# Altium integrated library Microchip dsPIC33E.IntLib: 190 symbols (part 14 of 15)
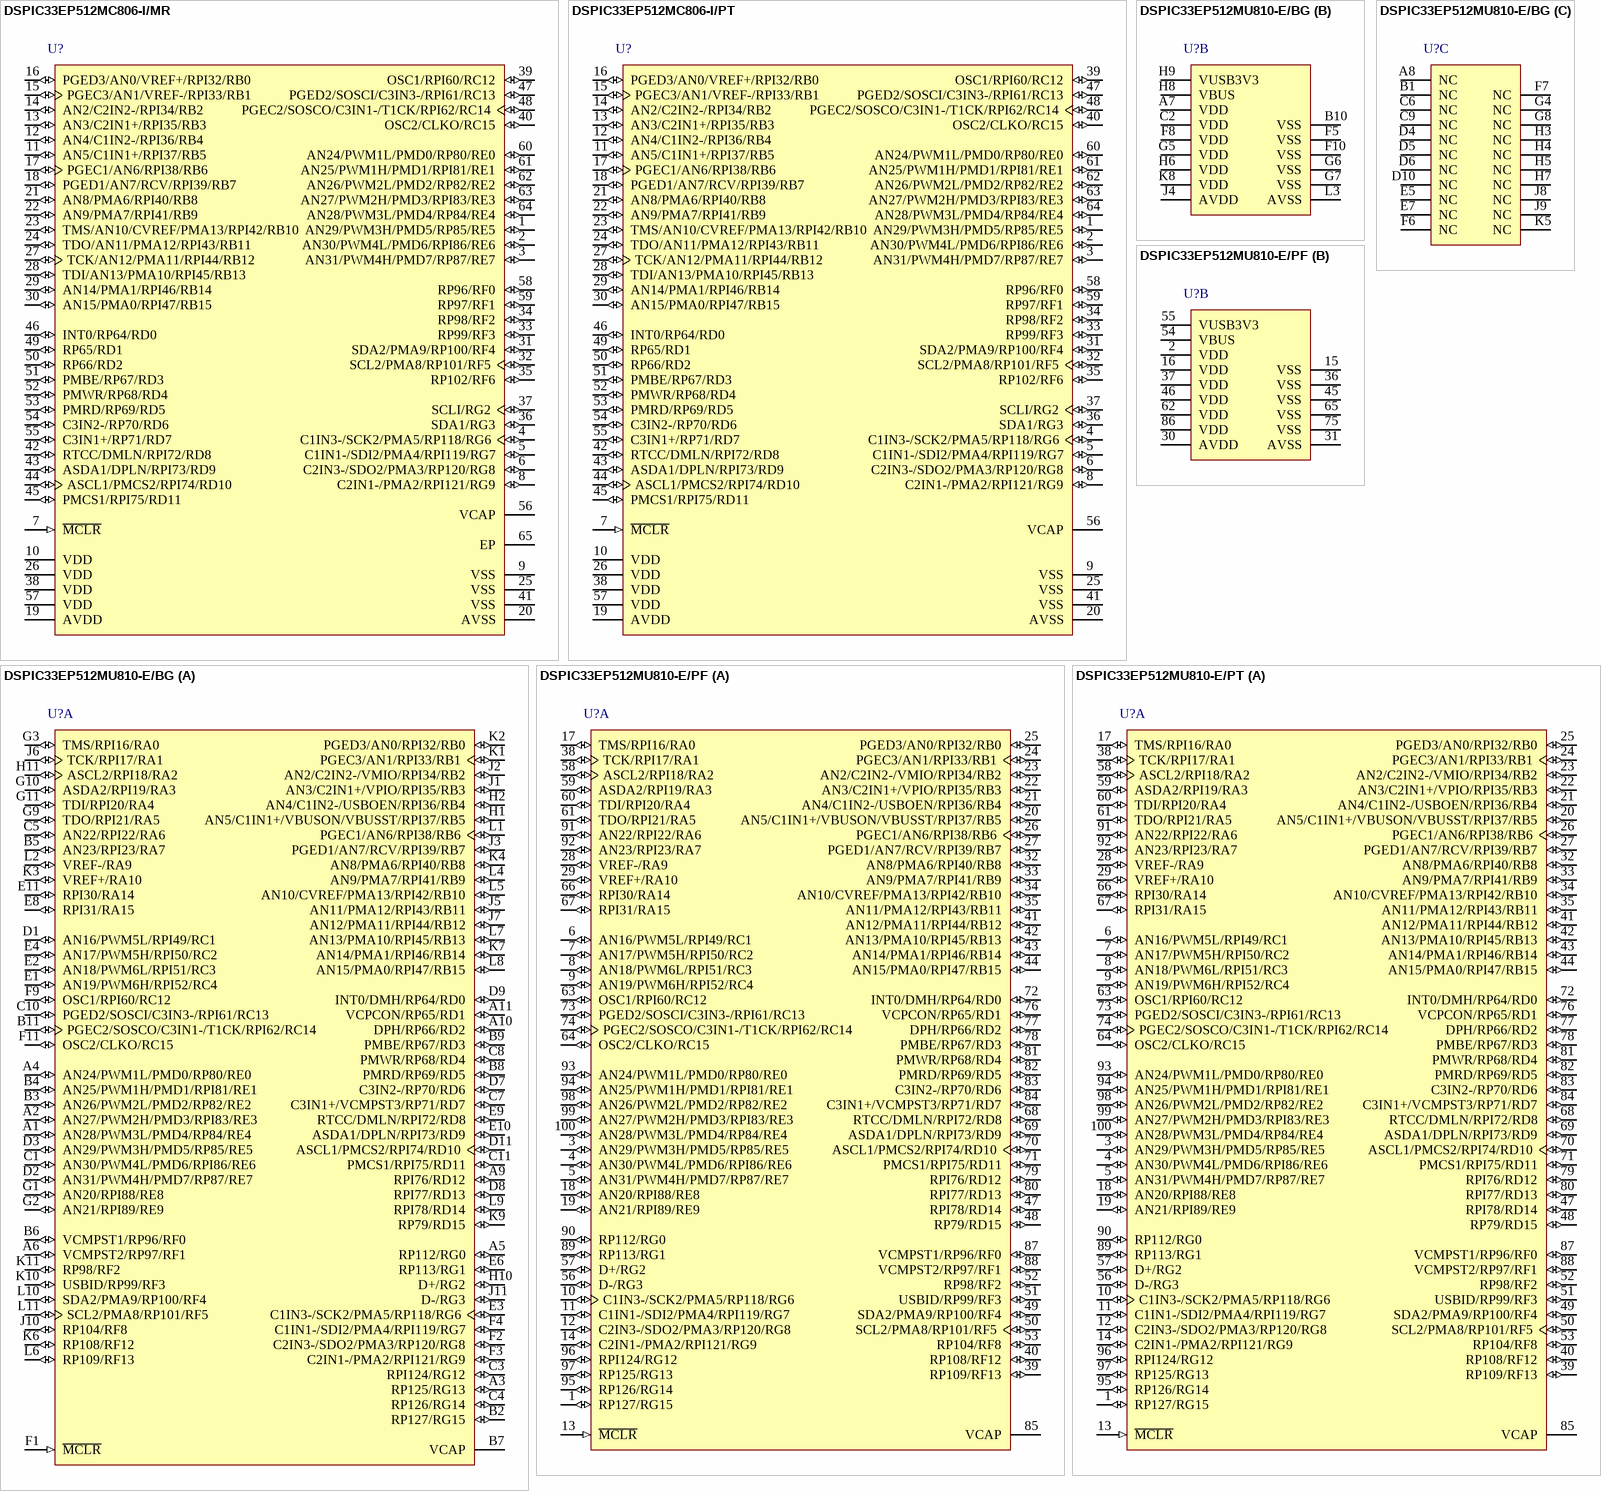
[diagram p75: symbols DSPIC33EP512MC806-I/MR to DSPIC33EP512MU810-E/PT]

## DSPIC33EP512MC806-I/MR
designator U?
16-Bit Microcontroller and Digital Signal Controller with High-Speed PWM, USB and Advanced Analog, 70 MIPS, 53 I/O, EPMP, -40 to 85 degC, 64-pin QFN (MR64), Tube; Manufacturer: Microchip; PartNumber: DSPIC33EP512MC806-I/MR; DatasheetVersion: Rev. G; PackageVersion: C04-149C; PackageReference: QFN-MR64; PackageDescription: 64-Lead Plastic Quad Flat, 9 x 9 mm Body, 0.5 mm Pitch; Supplier 1: Digi-Key; Supplier Part Number 1: DSPIC33EP512MC806-I/MR-ND; Supplier 2: Newark; Supplier Part Number 2: 72T9318; Supplier 3: Mouser; Supplier Part Number 3: 579-33EP512MC806IMR; Mounting Technology: Surface Mount; ComponentLink1Description: Manufacturer URL; ComponentLink1URL: http://www.microchip.com; ComponentLink2Description: Datasheet; ComponentLink2URL: http://ww1.microchip.com/downloads/en/DeviceDoc/70616g.pdf; ComponentLink3Description: Package Specification; ComponentLink3URL: http://www.microchip.com/stellent/groups/techpub_sg/documents/packagingspec/en012702.pdf; ComponentLink4Description: Product URL; ComponentLink4URL: http://www.microchip.com/dsPIC33EP512MC806
footprint MCHP-QFN-MR64-7275X7275TP_N (QFN, 64-Leads, Body 9x9mm, Pitch 0.5mm, Thermal Pad 7.275x7.275mm, IPC Medium Density)
footprint MCHP-QFN-MR64-7275X7275TP_L (QFN, 64-Leads, Body 9x9mm, Pitch 0.5mm, Thermal Pad 7.275x7.275mm, IPC High Density)
footprint MCHP-QFN-MR64-7275X7275TP_M (QFN, 64-Leads, Body 9x9mm, Pitch 0.5mm, Thermal Pad 7.275x7.275mm, IPC Low Density)
pins: 1 AN29/PWM3H/PMD5/RP85/RE5 (io), 2 AN30/PWM4L/PMD6/RPI86/RE6 (io), 3 AN31/PWM4H/PMD7/RP87/RE7 (io), 4 C1IN3-/SCK2/PMA5/RP118/RG6 (io), 5 C1IN1-/SDI2/PMA4/RPI119/RG7 (io), 6 C2IN3-/SDO2/PMA3/RP120/RG8 (io), 7 ~{MCLR} (in) "Master Clear (Reset) input. This pin is an active-low Reset to the device.", 8 C2IN1-/PMA2/RPI121/RG9 (io), 9 VSS (power) "Ground reference for logic and I/O pins.", 10 VDD (power) "Positive supply for peripheral logic and I/O pins.", 11 AN5/C1IN1+/RPI37/RB5 (io), 12 AN4/C1IN2-/RPI36/RB4 (io), 13 AN3/C2IN1+/RPI35/RB3 (io), 14 AN2/C2IN2-/RPI34/RB2 (io), 15 PGEC3/AN1/VREF-/RPI33/RB1 (io), 16 PGED3/AN0/VREF+/RPI32/RB0 (io), 17 PGEC1/AN6/RPI38/RB6 (io), 18 PGED1/AN7/RCV/RPI39/RB7 (io), 19 AVDD (power) "Positive supply for analog modules. This pin must be connected at all times.", 20 AVSS (power) "Ground reference for analog modules.", 21 AN8/PMA6/RPI40/RB8 (io), 22 AN9/PMA7/RPI41/RB9 (io), 23 TMS/AN10/CVREF/PMA13/RPI42/RB10 (io), 24 TDO/AN11/PMA12/RPI43/RB11 (io), 25 VSS (power) "Ground reference for logic and I/O pins.", 26 VDD (power) "Positive supply for peripheral logic and I/O pins.", 27 TCK/AN12/PMA11/RPI44/RB12 (io), 28 TDI/AN13/PMA10/RPI45/RB13 (io), 29 AN14/PMA1/RPI46/RB14 (io), 30 AN15/PMA0/RPI47/RB15 (io), 31 SDA2/PMA9/RP100/RF4 (io), 32 SCL2/PMA8/RP101/RF5 (io), 33 RP99/RF3 (io), 34 RP98/RF2 (io), 35 RP102/RF6 (io), 36 SDA1/RG3 (io), 37 SCLI/RG2 (io), 38 VDD (power) "Positive supply for peripheral logic and I/O pins.", 39 OSC1/RPI60/RC12 (io), 40 OSC2/CLKO/RC15 (io), 41 VSS (power) "Ground reference for logic and I/O pins.", 42 RTCC/DMLN/RPI72/RD8 (io), 43 ASDA1/DPLN/RPI73/RD9 (io), 44 ASCL1/PMCS2/RPI74/RD10 (io), 45 PMCS1/RPI75/RD11 (io), 46 INT0/RP64/RD0 (io), 47 PGED2/SOSCI/C3IN3-/RPI61/RC13 (io), 48 PGEC2/SOSCO/C3IN1-/T1CK/RPI62/RC14 (io), 49 RP65/RD1 (io), 50 RP66/RD2 (io), 51 PMBE/RP67/RD3 (io), 52 PMWR/RP68/RD4 (io), 53 PMRD/RP69/RD5 (io), 54 C3IN2-/RP70/RD6 (io), 55 C3IN1+/RP71/RD7 (io), 56 VCAP "CPU logic filter capacitor connection.", 57 VDD (power) "Positive supply for peripheral logic and I/O pins.", 58 RP96/RF0 (io), 59 RP97/RF1 (io), 60 AN24/PWM1L/PMD0/RP80/RE0 (io), 61 AN25/PWM1H/PMD1/RPI81/RE1 (io), 62 AN26/PWM2L/PMD2/RP82/RE2 (io), 63 AN27/PWM2H/PMD3/RPI83/RE3 (io), 64 AN28/PWM3L/PMD4/RP84/RE4 (io), 65 EP (power)

## DSPIC33EP512MC806-I/PT
designator U?
16-Bit Microcontroller and Digital Signal Controller with High-Speed PWM, USB and Advanced Analog, 70 MIPS, 53 I/O, EPMP, -40 to 85 degC, 64-pin TQFP (PT64), Tray; Manufacturer: Microchip; PartNumber: DSPIC33EP512MC806-I/PT; DatasheetVersion: Rev. G; PackageVersion: C04-085B; PackageReference: TQFP-PT64; PackageDescription: 64-Lead Plastic Thin Quad FlatPack, 10 x 10 mm Body, 0.5 mm Pitch; Supplier 1: Digi-Key; Supplier Part Number 1: DSPIC33EP512MC806-I/PT-ND; Supplier 2: Newark; Supplier Part Number 2: 72T9319; Supplier 3: Mouser; Supplier Part Number 3: 579-33EP512MC806IPT; Mounting Technology: Surface Mount; ComponentLink1Description: Manufacturer URL; ComponentLink1URL: http://www.microchip.com; ComponentLink2Description: Datasheet; ComponentLink2URL: http://ww1.microchip.com/downloads/en/DeviceDoc/70616g.pdf; ComponentLink3Description: Package Specification; ComponentLink3URL: http://www.microchip.com/stellent/groups/techpub_sg/documents/packagingspec/en012702.pdf; ComponentLink4Description: Product URL; ComponentLink4URL: http://www.microchip.com/dsPIC33EP512MC806
footprint MCHP-TQFP-PT64_N (TQFP, 64-Leads, Body 10x10mm, Pitch 0.5mm, IPC Medium Density)
footprint MCHP-TQFP-PT64_L (TQFP, 64-Leads, Body 10x10mm, Pitch 0.5mm, IPC High Density)
footprint MCHP-TQFP-PT64_M (TQFP, 64-Leads, Body 10x10mm, Pitch 0.5mm, IPC Low Density)
pins: 1 AN29/PWM3H/PMD5/RP85/RE5 (io), 2 AN30/PWM4L/PMD6/RPI86/RE6 (io), 3 AN31/PWM4H/PMD7/RP87/RE7 (io), 4 C1IN3-/SCK2/PMA5/RP118/RG6 (io), 5 C1IN1-/SDI2/PMA4/RPI119/RG7 (io), 6 C2IN3-/SDO2/PMA3/RP120/RG8 (io), 7 ~{MCLR} (in) "Master Clear (Reset) input. This pin is an active-low Reset to the device.", 8 C2IN1-/PMA2/RPI121/RG9 (io), 9 VSS (power) "Ground reference for logic and I/O pins.", 10 VDD (power) "Positive supply for peripheral logic and I/O pins.", 11 AN5/C1IN1+/RPI37/RB5 (io), 12 AN4/C1IN2-/RPI36/RB4 (io), 13 AN3/C2IN1+/RPI35/RB3 (io), 14 AN2/C2IN2-/RPI34/RB2 (io), 15 PGEC3/AN1/VREF-/RPI33/RB1 (io), 16 PGED3/AN0/VREF+/RPI32/RB0 (io), 17 PGEC1/AN6/RPI38/RB6 (io), 18 PGED1/AN7/RCV/RPI39/RB7 (io), 19 AVDD (power) "Positive supply for analog modules. This pin must be connected at all times.", 20 AVSS (power) "Ground reference for analog modules.", 21 AN8/PMA6/RPI40/RB8 (io), 22 AN9/PMA7/RPI41/RB9 (io), 23 TMS/AN10/CVREF/PMA13/RPI42/RB10 (io), 24 TDO/AN11/PMA12/RPI43/RB11 (io), 25 VSS (power) "Ground reference for logic and I/O pins.", 26 VDD (power) "Positive supply for peripheral logic and I/O pins.", 27 TCK/AN12/PMA11/RPI44/RB12 (io), 28 TDI/AN13/PMA10/RPI45/RB13 (io), 29 AN14/PMA1/RPI46/RB14 (io), 30 AN15/PMA0/RPI47/RB15 (io), 31 SDA2/PMA9/RP100/RF4 (io), 32 SCL2/PMA8/RP101/RF5 (io), 33 RP99/RF3 (io), 34 RP98/RF2 (io), 35 RP102/RF6 (io), 36 SDA1/RG3 (io), 37 SCLI/RG2 (io), 38 VDD (power) "Positive supply for peripheral logic and I/O pins.", 39 OSC1/RPI60/RC12 (io), 40 OSC2/CLKO/RC15 (io), 41 VSS (power) "Ground reference for logic and I/O pins.", 42 RTCC/DMLN/RPI72/RD8 (io), 43 ASDA1/DPLN/RPI73/RD9 (io), 44 ASCL1/PMCS2/RPI74/RD10 (io), 45 PMCS1/RPI75/RD11 (io), 46 INT0/RP64/RD0 (io), 47 PGED2/SOSCI/C3IN3-/RPI61/RC13 (io), 48 PGEC2/SOSCO/C3IN1-/T1CK/RPI62/RC14 (io), 49 RP65/RD1 (io), 50 RP66/RD2 (io), 51 PMBE/RP67/RD3 (io), 52 PMWR/RP68/RD4 (io), 53 PMRD/RP69/RD5 (io), 54 C3IN2-/RP70/RD6 (io), 55 C3IN1+/RP71/RD7 (io), 56 VCAP "CPU logic filter capacitor connection.", 57 VDD (power) "Positive supply for peripheral logic and I/O pins.", 58 RP96/RF0 (io), 59 RP97/RF1 (io), 60 AN24/PWM1L/PMD0/RP80/RE0 (io), 61 AN25/PWM1H/PMD1/RPI81/RE1 (io), 62 AN26/PWM2L/PMD2/RP82/RE2 (io), 63 AN27/PWM2H/PMD3/RPI83/RE3 (io), 64 AN28/PWM3L/PMD4/RP84/RE4 (io)

## DSPIC33EP512MU810-E/BG
designator U?
16-Bit Microcontroller and Digital Signal Controller with High-Speed PWM, USB and Advanced Analog, 70 MIPS, 83 I/O, PMP, -40 to 125 degC, 121-pin TFBGA (BG121), Tray; Manufacturer: Microchip; PartNumber: DSPIC33EP512MU810-E/BG; DatasheetVersion: Rev. G; PackageVersion: C04-148D; PackageReference: TFBGA-BG121; PackageDescription: 121-Ball Plastic Thin Profile Ball Grid Array, 10 x 10 mm Body, 0.8 mm Pitch; Supplier 1: Digi-Key; Supplier Part Number 1: DSPIC33EP512MU810-E/BG-ND; Supplier 2: Mouser; Supplier Part Number 2: 579-PIC33512MU810EBG; Mounting Technology: Surface Mount; ComponentLink1Description: Manufacturer URL; ComponentLink1URL: http://www.microchip.com; ComponentLink2Description: Datasheet; ComponentLink2URL: http://ww1.microchip.com/downloads/en/DeviceDoc/70616g.pdf; ComponentLink3Description: Package Specification; ComponentLink3URL: http://www.microchip.com/stellent/groups/techpub_sg/documents/packagingspec/en012702.pdf; ComponentLink4Description: Product URL; ComponentLink4URL: http://www.microchip.com/dsPIC33EP512MU810
footprint MCHP-TFBGA-BG121 (BGA, 121-Balls, Body 10x10mm, Pitch 0.8mm)
part A pins: A1 AN28/PWM3L/PMD4/RP84/RE4 (io), A2 AN27/PWM2H/PMD3/RPI83/RE3 (io), A3 RP125/RG13 (io), A4 AN24/PWM1L/PMD0/RP80/RE0 (io), A5 RP112/RG0 (io), A6 VCMPST2/RP97/RF1 (io), A9 RPI76/RD12 (io), A10 DPH/RP66/RD2 (io), A11 VCPCON/RP65/RD1 (io), B2 RP127/RG15 (io), B3 AN26/PWM2L/PMD2/RP82/RE2 (io), B4 AN25/PWM1H/PMD1/RPI81/RE1 (io), B5 AN23/RPI23/RA7 (io), B6 VCMPST1/RP96/RF0 (io), B7 VCAP "CPU logic filter capacitor connection.", B8 PMRD/RP69/RD5 (io), B9 PMBE/RP67/RD3 (io), B11 PGEC2/SOSCO/C3IN1-/T1CK/RPI62/RC14 (io), C1 AN30/PWM4L/PMD6/RPI86/RE6 (io), C3 RPI124/RG12 (io), C4 RP126/RG14 (io), C5 AN22/RPI22/RA6 (io), C7 C3IN1+/VCMPST3/RP71/RD7 (io), C8 PMWR/RP68/RD4 (io), C10 PGED2/SOSCI/C3IN3-/RPI61/RC13 (io), C11 PMCS1/RPI75/RD11 (io), D1 AN16/PWM5L/RPI49/RC1 (io), D2 AN31/PWM4H/PMD7/RP87/RE7 (io), D3 AN29/PWM3H/PMD5/RP85/RE5 (io), D7 C3IN2-/RP70/RD6 (io), D8 RPI77/RD13 (io), D9 INT0/DMH/RP64/RD0 (io), D11 ASCL1/PMCS2/RPI74/RD10 (io), E1 AN19/PWM6H/RPI52/RC4 (io), E2 AN18/PWM6L/RPI51/RC3 (io), E3 C1IN3-/SCK2/PMA5/RP118/RG6 (io), E4 AN17/PWM5H/RPI50/RC2 (io), E6 RP113/RG1 (io), E8 RPI31/RA15 (io), E9 RTCC/DMLN/RPI72/RD8 (io), E10 ASDA1/DPLN/RPI73/RD9 (io), E11 RPI30/RA14 (io), F1 ~{MCLR} (in) "Master Clear (Reset) input. This pin is an active-low Reset to the device.", F2 C2IN3-/SDO2/PMA3/RP120/RG8 (io), F3 C2IN1-/PMA2/RPI121/RG9 (io), F4 C1IN1-/SDI2/PMA4/RPI119/RG7 (io), F9 OSC1/RPI60/RC12 (io), F11 OSC2/CLKO/RC15 (io), G1 AN20/RPI88/RE8 (io), G2 AN21/RPI89/RE9 (io), G3 TMS/RPI16/RA0 (io), G9 TDO/RPI21/RA5 (io), G10 ASDA2/RPI19/RA3 (io), G11 TDI/RPI20/RA4 (io), H1 AN5/C1IN1+/VBUSON/VBUSST/RPI37/RB5 (io), H2 AN4/C1IN2-/USBOEN/RPI36/RB4 (io), H10 D+/RG2 (io) "D+ pin of internal USB transceiver.", H11 ASCL2/RPI18/RA2 (io), J1 AN3/C2IN1+/VPIO/RPI35/RB3 (io), J2 AN2/C2IN2-/VMIO/RPI34/RB2 (io), J3 PGED1/AN7/RCV/RPI39/RB7 (io), J5 AN11/PMA12/RPI43/RB11 (io), J6 TCK/RPI17/RA1 (io), J7 AN12/PMA11/RPI44/RB12 (io), J10 RP104/RF8 (io), J11 D-/RG3 (io) "D- pin of internal USB transceiver.", K1 PGEC3/AN1/RPI33/RB1 (io), K2 PGED3/AN0/RPI32/RB0 (io), K3 VREF+/RA10 (io), K4 AN8/PMA6/RPI40/RB8 (io), K6 RP108/RF12 (io), K7 AN14/PMA1/RPI46/RB14 (io), K9 RP79/RD15 (io), K10 USBID/RP99/RF3 (io), K11 RP98/RF2 (io), L1 PGEC1/AN6/RPI38/RB6 (io), L2 VREF-/RA9 (io), L4 AN9/PMA7/RPI41/RB9 (io), L5 AN10/CVREF/PMA13/RPI42/RB10 (io), L6 RP109/RF13 (io), L7 AN13/PMA10/RPI45/RB13 (io), L8 AN15/PMA0/RPI47/RB15 (io), L9 RPI78/RD14 (io), L10 SDA2/PMA9/RP100/RF4 (io), L11 SCL2/PMA8/RP101/RF5 (io)
part B pins: A7 VDD (power) "Positive supply for peripheral logic and I/O pins.", B10 VSS (power) "Ground reference for logic and I/O pins.", C2 VDD (power) "Positive supply for peripheral logic and I/O pins.", F5 VSS (power) "Ground reference for logic and I/O pins.", F8 VDD (power) "Positive supply for peripheral logic and I/O pins.", F10 VSS (power) "Ground reference for logic and I/O pins.", G5 VDD (power) "Positive supply for peripheral logic and I/O pins.", G6 VSS (power) "Ground reference for logic and I/O pins.", G7 VSS (power) "Ground reference for logic and I/O pins.", H6 VDD (power) "Positive supply for peripheral logic and I/O pins.", H8 VBUS (power) "USB bus power monitor.", H9 VUSB3V3 (power) "USB internal transceiver supply. If the USB module is not being used, this pin must be connected to VDD.", J4 AVDD (power) "Positive supply for analog modules. This pin must be connected at all times.", K8 VDD (power) "Positive supply for peripheral logic and I/O pins.", L3 AVSS (power) "Ground reference for analog modules."
part C pins: A8 NC "No Connect", B1 NC "No Connect", C6 NC "No Connect", C9 NC "No Connect", D4 NC "No Connect", D5 NC "No Connect", D6 NC "No Connect", D10 NC "No Connect", E5 NC "No Connect", E7 NC "No Connect", F6 NC "No Connect", F7 NC "No Connect", G4 NC "No Connect", G8 NC "No Connect", H3 NC "No Connect", H4 NC "No Connect", H5 NC "No Connect", H7 NC "No Connect", J8 NC "No Connect", J9 NC "No Connect", K5 NC "No Connect"

## DSPIC33EP512MU810-E/PF
designator U?
16-Bit Microcontroller and Digital Signal Controller with High-Speed PWM, USB and Advanced Analog, 70 MIPS, 83 I/O, PMP, -40 to 125 degC, 100-pin TQFP (PF100), Tray; Manufacturer: Microchip; PartNumber: DSPIC33EP512MU810-E/PF; DatasheetVersion: Rev. G; PackageVersion: C04-110B; PackageReference: TQFP-PF100; PackageDescription: 100-Lead Thin Plastic Quad Flat Pack, 14 x 14 mm Body, 0.5 mm Pitch; Supplier 1: Digi-Key; Supplier Part Number 1: DSPIC33EP512MU810-E/PF-ND; Supplier 2: Newark; Supplier Part Number 2: 65R5403; Supplier 3: Mouser; Supplier Part Number 3: 579-PIC33512MU810F; Mounting Technology: Surface Mount; ComponentLink1Description: Manufacturer URL; ComponentLink1URL: http://www.microchip.com; ComponentLink2Description: Datasheet; ComponentLink2URL: http://ww1.microchip.com/downloads/en/DeviceDoc/70616g.pdf; ComponentLink3Description: Package Specification; ComponentLink3URL: http://www.microchip.com/stellent/groups/techpub_sg/documents/packagingspec/en012702.pdf; ComponentLink4Description: Product URL; ComponentLink4URL: http://www.microchip.com/dsPIC33EP512MU810
footprint MCHP-TQFP-PF100_N (QFP, 100-Leads, Body 14x14mm, Pitch 0.5mm, IPC Medium Density)
footprint MCHP-TQFP-PF100_L (QFP, 100-Leads, Body 14x14mm, Pitch 0.5mm, IPC High Density)
footprint MCHP-TQFP-PF100_M (QFP, 100-Leads, Body 14x14mm, Pitch 0.5mm, IPC Low Density)
part A pins: 1 RP127/RG15 (io), 3 AN29/PWM3H/PMD5/RP85/RE5 (io), 4 AN30/PWM4L/PMD6/RPI86/RE6 (io), 5 AN31/PWM4H/PMD7/RP87/RE7 (io), 6 AN16/PWM5L/RPI49/RC1 (io), 7 AN17/PWM5H/RPI50/RC2 (io), 8 AN18/PWM6L/RPI51/RC3 (io), 9 AN19/PWM6H/RPI52/RC4 (io), 10 C1IN3-/SCK2/PMA5/RP118/RG6 (io), 11 C1IN1-/SDI2/PMA4/RPI119/RG7 (io), 12 C2IN3-/SDO2/PMA3/RP120/RG8 (io), 13 ~{MCLR} (in) "Master Clear (Reset) input. This pin is an active-low Reset to the device.", 14 C2IN1-/PMA2/RPI121/RG9 (io), 17 TMS/RPI16/RA0 (io), 18 AN20/RPI88/RE8 (io), 19 AN21/RPI89/RE9 (io), 20 AN5/C1IN1+/VBUSON/VBUSST/RPI37/RB5 (io), 21 AN4/C1IN2-/USBOEN/RPI36/RB4 (io), 22 AN3/C2IN1+/VPIO/RPI35/RB3 (io), 23 AN2/C2IN2-/VMIO/RPI34/RB2 (io), 24 PGEC3/AN1/RPI33/RB1 (io), 25 PGED3/AN0/RPI32/RB0 (io), 26 PGEC1/AN6/RPI38/RB6 (io), 27 PGED1/AN7/RCV/RPI39/RB7 (io), 28 VREF-/RA9 (io), 29 VREF+/RA10 (io), 32 AN8/PMA6/RPI40/RB8 (io), 33 AN9/PMA7/RPI41/RB9 (io), 34 AN10/CVREF/PMA13/RPI42/RB10 (io), 35 AN11/PMA12/RPI43/RB11 (io), 38 TCK/RPI17/RA1 (io), 39 RP109/RF13 (io), 40 RP108/RF12 (io), 41 AN12/PMA11/RPI44/RB12 (io), 42 AN13/PMA10/RPI45/RB13 (io), 43 AN14/PMA1/RPI46/RB14 (io), 44 AN15/PMA0/RPI47/RB15 (io), 47 RPI78/RD14 (io), 48 RP79/RD15 (io), 49 SDA2/PMA9/RP100/RF4 (io), 50 SCL2/PMA8/RP101/RF5 (io), 51 USBID/RP99/RF3 (io), 52 RP98/RF2 (io), 53 RP104/RF8 (io), 56 D-/RG3 (io), 57 D+/RG2 (io), 58 ASCL2/RPI18/RA2 (io), 59 ASDA2/RPI19/RA3 (io), 60 TDI/RPI20/RA4 (io), 61 TDO/RPI21/RA5 (io), 63 OSC1/RPI60/RC12 (io), 64 OSC2/CLKO/RC15 (io), 66 RPI30/RA14 (io), 67 RPI31/RA15 (io), 68 RTCC/DMLN/RPI72/RD8 (io), 69 ASDA1/DPLN/RPI73/RD9 (io), 70 ASCL1/PMCS2/RPI74/RD10 (io), 71 PMCS1/RPI75/RD11 (io), 72 INT0/DMH/RP64/RD0 (io), 73 PGED2/SOSCI/C3IN3-/RPI61/RC13 (io), 74 PGEC2/SOSCO/C3IN1-/T1CK/RPI62/RC14 (io), 76 VCPCON/RP65/RD1 (io), 77 DPH/RP66/RD2 (io), 78 PMBE/RP67/RD3 (io), 79 RPI76/RD12 (io), 80 RPI77/RD13 (io), 81 PMWR/RP68/RD4 (io), 82 PMRD/RP69/RD5 (io), 83 C3IN2-/RP70/RD6 (io), 84 C3IN1+/VCMPST3/RP71/RD7 (io), 85 VCAP "CPU logic filter capacitor connection.", 87 VCMPST1/RP96/RF0 (io), 88 VCMPST2/RP97/RF1 (io), 89 RP113/RG1 (io), 90 RP112/RG0 (io), 91 AN22/RPI22/RA6 (io), 92 AN23/RPI23/RA7 (io), 93 AN24/PWM1L/PMD0/RP80/RE0 (io), 94 AN25/PWM1H/PMD1/RPI81/RE1 (io), 95 RP126/RG14 (io), 96 RPI124/RG12 (io), 97 RP125/RG13 (io), 98 AN26/PWM2L/PMD2/RP82/RE2 (io), 99 AN27/PWM2H/PMD3/RPI83/RE3 (io), 100 AN28/PWM3L/PMD4/RP84/RE4 (io)
part B pins: 2 VDD (power) "Positive supply for peripheral logic and I/O pins.", 15 VSS (power) "Ground reference for logic and I/O pins.", 16 VDD (power) "Positive supply for peripheral logic and I/O pins.", 30 AVDD (power) "Positive supply for analog modules. This pin must be connected at all times.", 31 AVSS (power) "Ground reference for analog modules.", 36 VSS (power) "Ground reference for logic and I/O pins.", 37 VDD (power) "Positive supply for peripheral logic and I/O pins.", 45 VSS (power) "Ground reference for logic and I/O pins.", 46 VDD (power) "Positive supply for peripheral logic and I/O pins.", 54 VBUS (power) "USB bus power monitor.", 55 VUSB3V3 (power) "USB internal transceiver supply. If the USB module is not being used, this pin must be connected to VDD.", 62 VDD (power) "Positive supply for peripheral logic and I/O pins.", 65 VSS (power) "Ground reference for logic and I/O pins.", 75 VSS (power) "Ground reference for logic and I/O pins.", 86 VDD (power) "Positive supply for peripheral logic and I/O pins."

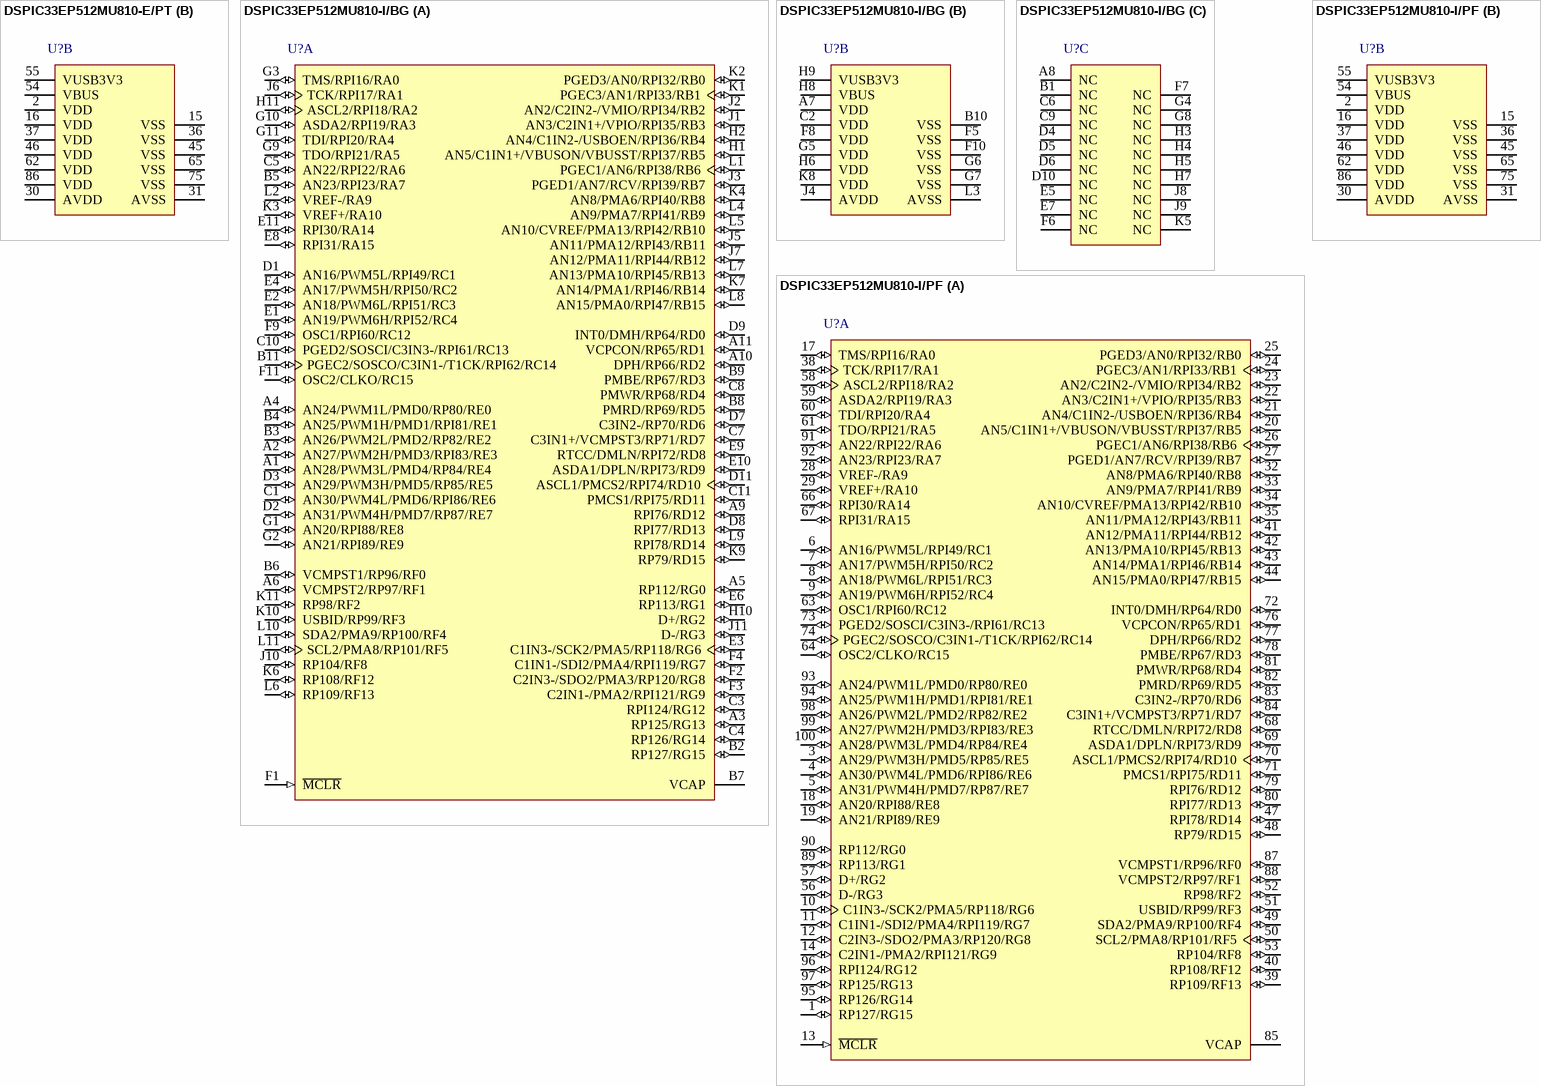
[diagram p59: symbols DSPIC33EP512MU810-E/PT to DSPIC33EP512MU810-I/PF]

## DSPIC33EP512MU810-E/PT
designator U?
16-Bit Microcontroller and Digital Signal Controller with High-Speed PWM, USB and Advanced Analog, 70 MIPS, 83 I/O, PMP, -40 to 125 degC, 100-pin TQFP (PT100), Tray; Manufacturer: Microchip; PartNumber: DSPIC33EP512MU810-E/PT; DatasheetVersion: Rev. G; PackageVersion: C04-100B; PackageReference: TQFP-PT100; PackageDescription: 100-Lead Plastic Thin Quad Flatpack, 12 x 12 mm Body, 0.4 mm Pitch; Supplier 1: Digi-Key; Supplier Part Number 1: DSPIC33EP512MU810-E/PT-ND; Supplier 2: Newark; Supplier Part Number 2: 65R5404; Supplier 3: Mouser; Supplier Part Number 3: 579-PIC33512MU810T; Mounting Technology: Surface Mount; ComponentLink1Description: Manufacturer URL; ComponentLink1URL: http://www.microchip.com; ComponentLink2Description: Datasheet; ComponentLink2URL: http://ww1.microchip.com/downloads/en/DeviceDoc/70616g.pdf; ComponentLink3Description: Package Specification; ComponentLink3URL: http://www.microchip.com/stellent/groups/techpub_sg/documents/packagingspec/en012702.pdf; ComponentLink4Description: Product URL; ComponentLink4URL: http://www.microchip.com/dsPIC33EP512MU810
footprint MCHP-TQFP-PT100_N (QFP, 100-Leads, Body 12x12mm, Pitch 0.4mm, IPC Medium Density)
footprint MCHP-TQFP-PT100_L (QFP, 100-Leads, Body 12x12mm, Pitch 0.4mm, IPC High Density)
footprint MCHP-TQFP-PT100_M (TQFP, 100-Leads, Body 12x12mm, Pitch 0.4mm, IPC Low Density)
part A pins: 1 RP127/RG15 (io), 3 AN29/PWM3H/PMD5/RP85/RE5 (io), 4 AN30/PWM4L/PMD6/RPI86/RE6 (io), 5 AN31/PWM4H/PMD7/RP87/RE7 (io), 6 AN16/PWM5L/RPI49/RC1 (io), 7 AN17/PWM5H/RPI50/RC2 (io), 8 AN18/PWM6L/RPI51/RC3 (io), 9 AN19/PWM6H/RPI52/RC4 (io), 10 C1IN3-/SCK2/PMA5/RP118/RG6 (io), 11 C1IN1-/SDI2/PMA4/RPI119/RG7 (io), 12 C2IN3-/SDO2/PMA3/RP120/RG8 (io), 13 ~{MCLR} (in) "Master Clear (Reset) input. This pin is an active-low Reset to the device.", 14 C2IN1-/PMA2/RPI121/RG9 (io), 17 TMS/RPI16/RA0 (io), 18 AN20/RPI88/RE8 (io), 19 AN21/RPI89/RE9 (io), 20 AN5/C1IN1+/VBUSON/VBUSST/RPI37/RB5 (io), 21 AN4/C1IN2-/USBOEN/RPI36/RB4 (io), 22 AN3/C2IN1+/VPIO/RPI35/RB3 (io), 23 AN2/C2IN2-/VMIO/RPI34/RB2 (io), 24 PGEC3/AN1/RPI33/RB1 (io), 25 PGED3/AN0/RPI32/RB0 (io), 26 PGEC1/AN6/RPI38/RB6 (io), 27 PGED1/AN7/RCV/RPI39/RB7 (io), 28 VREF-/RA9 (io), 29 VREF+/RA10 (io), 32 AN8/PMA6/RPI40/RB8 (io), 33 AN9/PMA7/RPI41/RB9 (io), 34 AN10/CVREF/PMA13/RPI42/RB10 (io), 35 AN11/PMA12/RPI43/RB11 (io), 38 TCK/RPI17/RA1 (io), 39 RP109/RF13 (io), 40 RP108/RF12 (io), 41 AN12/PMA11/RPI44/RB12 (io), 42 AN13/PMA10/RPI45/RB13 (io), 43 AN14/PMA1/RPI46/RB14 (io), 44 AN15/PMA0/RPI47/RB15 (io), 47 RPI78/RD14 (io), 48 RP79/RD15 (io), 49 SDA2/PMA9/RP100/RF4 (io), 50 SCL2/PMA8/RP101/RF5 (io), 51 USBID/RP99/RF3 (io), 52 RP98/RF2 (io), 53 RP104/RF8 (io), 56 D-/RG3 (io), 57 D+/RG2 (io), 58 ASCL2/RPI18/RA2 (io), 59 ASDA2/RPI19/RA3 (io), 60 TDI/RPI20/RA4 (io), 61 TDO/RPI21/RA5 (io), 63 OSC1/RPI60/RC12 (io), 64 OSC2/CLKO/RC15 (io), 66 RPI30/RA14 (io), 67 RPI31/RA15 (io), 68 RTCC/DMLN/RPI72/RD8 (io), 69 ASDA1/DPLN/RPI73/RD9 (io), 70 ASCL1/PMCS2/RPI74/RD10 (io), 71 PMCS1/RPI75/RD11 (io), 72 INT0/DMH/RP64/RD0 (io), 73 PGED2/SOSCI/C3IN3-/RPI61/RC13 (io), 74 PGEC2/SOSCO/C3IN1-/T1CK/RPI62/RC14 (io), 76 VCPCON/RP65/RD1 (io), 77 DPH/RP66/RD2 (io), 78 PMBE/RP67/RD3 (io), 79 RPI76/RD12 (io), 80 RPI77/RD13 (io), 81 PMWR/RP68/RD4 (io), 82 PMRD/RP69/RD5 (io), 83 C3IN2-/RP70/RD6 (io), 84 C3IN1+/VCMPST3/RP71/RD7 (io), 85 VCAP "CPU logic filter capacitor connection.", 87 VCMPST1/RP96/RF0 (io), 88 VCMPST2/RP97/RF1 (io), 89 RP113/RG1 (io), 90 RP112/RG0 (io), 91 AN22/RPI22/RA6 (io), 92 AN23/RPI23/RA7 (io), 93 AN24/PWM1L/PMD0/RP80/RE0 (io), 94 AN25/PWM1H/PMD1/RPI81/RE1 (io), 95 RP126/RG14 (io), 96 RPI124/RG12 (io), 97 RP125/RG13 (io), 98 AN26/PWM2L/PMD2/RP82/RE2 (io), 99 AN27/PWM2H/PMD3/RPI83/RE3 (io), 100 AN28/PWM3L/PMD4/RP84/RE4 (io)
part B pins: 2 VDD (power) "Positive supply for peripheral logic and I/O pins.", 15 VSS (power) "Ground reference for logic and I/O pins.", 16 VDD (power) "Positive supply for peripheral logic and I/O pins.", 30 AVDD (power) "Positive supply for analog modules. This pin must be connected at all times.", 31 AVSS (power) "Ground reference for analog modules.", 36 VSS (power) "Ground reference for logic and I/O pins.", 37 VDD (power) "Positive supply for peripheral logic and I/O pins.", 45 VSS (power) "Ground reference for logic and I/O pins.", 46 VDD (power) "Positive supply for peripheral logic and I/O pins.", 54 VBUS (power) "USB bus power monitor.", 55 VUSB3V3 (power) "USB internal transceiver supply. If the USB module is not being used, this pin must be connected to VDD.", 62 VDD (power) "Positive supply for peripheral logic and I/O pins.", 65 VSS (power) "Ground reference for logic and I/O pins.", 75 VSS (power) "Ground reference for logic and I/O pins.", 86 VDD (power) "Positive supply for peripheral logic and I/O pins."

## DSPIC33EP512MU810-I/BG
designator U?
16-Bit Microcontroller and Digital Signal Controller with High-Speed PWM, USB and Advanced Analog, 70 MIPS, 83 I/O, PMP, -40 to 85 degC, 121-pin TFBGA (BG121), Tray; Manufacturer: Microchip; PartNumber: DSPIC33EP512MU810-I/BG; DatasheetVersion: Rev. G; PackageVersion: C04-148D; PackageReference: TFBGA-BG121; PackageDescription: 121-Ball Plastic Thin Profile Ball Grid Array, 10 x 10 mm Body, 0.8 mm Pitch; Supplier 1: Digi-Key; Supplier Part Number 1: DSPIC33EP512MU810-I/BG-ND; Supplier 2: Farnell; Supplier Part Number 2: 2062988; Supplier 3: Newark; Supplier Part Number 3: 73R8366; Supplier 4: Mouser; Supplier Part Number 4: 579-PIC33512MU810IBG; Mounting Technology: Surface Mount; ComponentLink1Description: Manufacturer URL; ComponentLink1URL: http://www.microchip.com; ComponentLink2Description: Datasheet; ComponentLink2URL: http://ww1.microchip.com/downloads/en/DeviceDoc/70616g.pdf; ComponentLink3Description: Package Specification; ComponentLink3URL: http://www.microchip.com/stellent/groups/techpub_sg/documents/packagingspec/en012702.pdf; ComponentLink4Description: Product URL; ComponentLink4URL: http://www.microchip.com/dsPIC33EP512MU810
footprint MCHP-TFBGA-BG121 (BGA, 121-Balls, Body 10x10mm, Pitch 0.8mm)
part A pins: A1 AN28/PWM3L/PMD4/RP84/RE4 (io), A2 AN27/PWM2H/PMD3/RPI83/RE3 (io), A3 RP125/RG13 (io), A4 AN24/PWM1L/PMD0/RP80/RE0 (io), A5 RP112/RG0 (io), A6 VCMPST2/RP97/RF1 (io), A9 RPI76/RD12 (io), A10 DPH/RP66/RD2 (io), A11 VCPCON/RP65/RD1 (io), B2 RP127/RG15 (io), B3 AN26/PWM2L/PMD2/RP82/RE2 (io), B4 AN25/PWM1H/PMD1/RPI81/RE1 (io), B5 AN23/RPI23/RA7 (io), B6 VCMPST1/RP96/RF0 (io), B7 VCAP "CPU logic filter capacitor connection.", B8 PMRD/RP69/RD5 (io), B9 PMBE/RP67/RD3 (io), B11 PGEC2/SOSCO/C3IN1-/T1CK/RPI62/RC14 (io), C1 AN30/PWM4L/PMD6/RPI86/RE6 (io), C3 RPI124/RG12 (io), C4 RP126/RG14 (io), C5 AN22/RPI22/RA6 (io), C7 C3IN1+/VCMPST3/RP71/RD7 (io), C8 PMWR/RP68/RD4 (io), C10 PGED2/SOSCI/C3IN3-/RPI61/RC13 (io), C11 PMCS1/RPI75/RD11 (io), D1 AN16/PWM5L/RPI49/RC1 (io), D2 AN31/PWM4H/PMD7/RP87/RE7 (io), D3 AN29/PWM3H/PMD5/RP85/RE5 (io), D7 C3IN2-/RP70/RD6 (io), D8 RPI77/RD13 (io), D9 INT0/DMH/RP64/RD0 (io), D11 ASCL1/PMCS2/RPI74/RD10 (io), E1 AN19/PWM6H/RPI52/RC4 (io), E2 AN18/PWM6L/RPI51/RC3 (io), E3 C1IN3-/SCK2/PMA5/RP118/RG6 (io), E4 AN17/PWM5H/RPI50/RC2 (io), E6 RP113/RG1 (io), E8 RPI31/RA15 (io), E9 RTCC/DMLN/RPI72/RD8 (io), E10 ASDA1/DPLN/RPI73/RD9 (io), E11 RPI30/RA14 (io), F1 ~{MCLR} (in) "Master Clear (Reset) input. This pin is an active-low Reset to the device.", F2 C2IN3-/SDO2/PMA3/RP120/RG8 (io), F3 C2IN1-/PMA2/RPI121/RG9 (io), F4 C1IN1-/SDI2/PMA4/RPI119/RG7 (io), F9 OSC1/RPI60/RC12 (io), F11 OSC2/CLKO/RC15 (io), G1 AN20/RPI88/RE8 (io), G2 AN21/RPI89/RE9 (io), G3 TMS/RPI16/RA0 (io), G9 TDO/RPI21/RA5 (io), G10 ASDA2/RPI19/RA3 (io), G11 TDI/RPI20/RA4 (io), H1 AN5/C1IN1+/VBUSON/VBUSST/RPI37/RB5 (io), H2 AN4/C1IN2-/USBOEN/RPI36/RB4 (io), H10 D+/RG2 (io) "D+ pin of internal USB transceiver.", H11 ASCL2/RPI18/RA2 (io), J1 AN3/C2IN1+/VPIO/RPI35/RB3 (io), J2 AN2/C2IN2-/VMIO/RPI34/RB2 (io), J3 PGED1/AN7/RCV/RPI39/RB7 (io), J5 AN11/PMA12/RPI43/RB11 (io), J6 TCK/RPI17/RA1 (io), J7 AN12/PMA11/RPI44/RB12 (io), J10 RP104/RF8 (io), J11 D-/RG3 (io) "D- pin of internal USB transceiver.", K1 PGEC3/AN1/RPI33/RB1 (io), K2 PGED3/AN0/RPI32/RB0 (io), K3 VREF+/RA10 (io), K4 AN8/PMA6/RPI40/RB8 (io), K6 RP108/RF12 (io), K7 AN14/PMA1/RPI46/RB14 (io), K9 RP79/RD15 (io), K10 USBID/RP99/RF3 (io), K11 RP98/RF2 (io), L1 PGEC1/AN6/RPI38/RB6 (io), L2 VREF-/RA9 (io), L4 AN9/PMA7/RPI41/RB9 (io), L5 AN10/CVREF/PMA13/RPI42/RB10 (io), L6 RP109/RF13 (io), L7 AN13/PMA10/RPI45/RB13 (io), L8 AN15/PMA0/RPI47/RB15 (io), L9 RPI78/RD14 (io), L10 SDA2/PMA9/RP100/RF4 (io), L11 SCL2/PMA8/RP101/RF5 (io)
part B pins: A7 VDD (power) "Positive supply for peripheral logic and I/O pins.", B10 VSS (power) "Ground reference for logic and I/O pins.", C2 VDD (power) "Positive supply for peripheral logic and I/O pins.", F5 VSS (power) "Ground reference for logic and I/O pins.", F8 VDD (power) "Positive supply for peripheral logic and I/O pins.", F10 VSS (power) "Ground reference for logic and I/O pins.", G5 VDD (power) "Positive supply for peripheral logic and I/O pins.", G6 VSS (power) "Ground reference for logic and I/O pins.", G7 VSS (power) "Ground reference for logic and I/O pins.", H6 VDD (power) "Positive supply for peripheral logic and I/O pins.", H8 VBUS (power) "USB bus power monitor.", H9 VUSB3V3 (power) "USB internal transceiver supply. If the USB module is not being used, this pin must be connected to VDD.", J4 AVDD (power) "Positive supply for analog modules. This pin must be connected at all times.", K8 VDD (power) "Positive supply for peripheral logic and I/O pins.", L3 AVSS (power) "Ground reference for analog modules."
part C pins: A8 NC "No Connect", B1 NC "No Connect", C6 NC "No Connect", C9 NC "No Connect", D4 NC "No Connect", D5 NC "No Connect", D6 NC "No Connect", D10 NC "No Connect", E5 NC "No Connect", E7 NC "No Connect", F6 NC "No Connect", F7 NC "No Connect", G4 NC "No Connect", G8 NC "No Connect", H3 NC "No Connect", H4 NC "No Connect", H5 NC "No Connect", H7 NC "No Connect", J8 NC "No Connect", J9 NC "No Connect", K5 NC "No Connect"

## DSPIC33EP512MU810-I/PF
designator U?
16-Bit Microcontroller and Digital Signal Controller with High-Speed PWM, USB and Advanced Analog, 70 MIPS, 83 I/O, PMP, -40 to 85 degC, 100-pin TQFP (PF100), Tray; Manufacturer: Microchip; PartNumber: DSPIC33EP512MU810-I/PF; DatasheetVersion: Rev. G; PackageVersion: C04-110B; PackageReference: TQFP-PF100; PackageDescription: 100-Lead Thin Plastic Quad Flat Pack, 14 x 14 mm Body, 0.5 mm Pitch; Supplier 1: Digi-Key; Supplier Part Number 1: DSPIC33EP512MU810-I/PF-ND; Supplier 2: Farnell; Supplier Part Number 2: 2062989; Supplier 3: Newark; Supplier Part Number 3: 65R5405; Supplier 4: Mouser; Supplier Part Number 4: 579-PIC33512MU810IPF; Mounting Technology: Surface Mount; ComponentLink1Description: Manufacturer URL; ComponentLink1URL: http://www.microchip.com; ComponentLink2Description: Datasheet; ComponentLink2URL: http://ww1.microchip.com/downloads/en/DeviceDoc/70616g.pdf; ComponentLink3Description: Package Specification; ComponentLink3URL: http://www.microchip.com/stellent/groups/techpub_sg/documents/packagingspec/en012702.pdf; ComponentLink4Description: Product URL; ComponentLink4URL: http://www.microchip.com/dsPIC33EP512MU810
footprint MCHP-TQFP-PF100_N (QFP, 100-Leads, Body 14x14mm, Pitch 0.5mm, IPC Medium Density)
footprint MCHP-TQFP-PF100_L (QFP, 100-Leads, Body 14x14mm, Pitch 0.5mm, IPC High Density)
footprint MCHP-TQFP-PF100_M (QFP, 100-Leads, Body 14x14mm, Pitch 0.5mm, IPC Low Density)
part A pins: 1 RP127/RG15 (io), 3 AN29/PWM3H/PMD5/RP85/RE5 (io), 4 AN30/PWM4L/PMD6/RPI86/RE6 (io), 5 AN31/PWM4H/PMD7/RP87/RE7 (io), 6 AN16/PWM5L/RPI49/RC1 (io), 7 AN17/PWM5H/RPI50/RC2 (io), 8 AN18/PWM6L/RPI51/RC3 (io), 9 AN19/PWM6H/RPI52/RC4 (io), 10 C1IN3-/SCK2/PMA5/RP118/RG6 (io), 11 C1IN1-/SDI2/PMA4/RPI119/RG7 (io), 12 C2IN3-/SDO2/PMA3/RP120/RG8 (io), 13 ~{MCLR} (in) "Master Clear (Reset) input. This pin is an active-low Reset to the device.", 14 C2IN1-/PMA2/RPI121/RG9 (io), 17 TMS/RPI16/RA0 (io), 18 AN20/RPI88/RE8 (io), 19 AN21/RPI89/RE9 (io), 20 AN5/C1IN1+/VBUSON/VBUSST/RPI37/RB5 (io), 21 AN4/C1IN2-/USBOEN/RPI36/RB4 (io), 22 AN3/C2IN1+/VPIO/RPI35/RB3 (io), 23 AN2/C2IN2-/VMIO/RPI34/RB2 (io), 24 PGEC3/AN1/RPI33/RB1 (io), 25 PGED3/AN0/RPI32/RB0 (io), 26 PGEC1/AN6/RPI38/RB6 (io), 27 PGED1/AN7/RCV/RPI39/RB7 (io), 28 VREF-/RA9 (io), 29 VREF+/RA10 (io), 32 AN8/PMA6/RPI40/RB8 (io), 33 AN9/PMA7/RPI41/RB9 (io), 34 AN10/CVREF/PMA13/RPI42/RB10 (io), 35 AN11/PMA12/RPI43/RB11 (io), 38 TCK/RPI17/RA1 (io), 39 RP109/RF13 (io), 40 RP108/RF12 (io), 41 AN12/PMA11/RPI44/RB12 (io), 42 AN13/PMA10/RPI45/RB13 (io), 43 AN14/PMA1/RPI46/RB14 (io), 44 AN15/PMA0/RPI47/RB15 (io), 47 RPI78/RD14 (io), 48 RP79/RD15 (io), 49 SDA2/PMA9/RP100/RF4 (io), 50 SCL2/PMA8/RP101/RF5 (io), 51 USBID/RP99/RF3 (io), 52 RP98/RF2 (io), 53 RP104/RF8 (io), 56 D-/RG3 (io), 57 D+/RG2 (io), 58 ASCL2/RPI18/RA2 (io), 59 ASDA2/RPI19/RA3 (io), 60 TDI/RPI20/RA4 (io), 61 TDO/RPI21/RA5 (io), 63 OSC1/RPI60/RC12 (io), 64 OSC2/CLKO/RC15 (io), 66 RPI30/RA14 (io), 67 RPI31/RA15 (io), 68 RTCC/DMLN/RPI72/RD8 (io), 69 ASDA1/DPLN/RPI73/RD9 (io), 70 ASCL1/PMCS2/RPI74/RD10 (io), 71 PMCS1/RPI75/RD11 (io), 72 INT0/DMH/RP64/RD0 (io), 73 PGED2/SOSCI/C3IN3-/RPI61/RC13 (io), 74 PGEC2/SOSCO/C3IN1-/T1CK/RPI62/RC14 (io), 76 VCPCON/RP65/RD1 (io), 77 DPH/RP66/RD2 (io), 78 PMBE/RP67/RD3 (io), 79 RPI76/RD12 (io), 80 RPI77/RD13 (io), 81 PMWR/RP68/RD4 (io), 82 PMRD/RP69/RD5 (io), 83 C3IN2-/RP70/RD6 (io), 84 C3IN1+/VCMPST3/RP71/RD7 (io), 85 VCAP "CPU logic filter capacitor connection.", 87 VCMPST1/RP96/RF0 (io), 88 VCMPST2/RP97/RF1 (io), 89 RP113/RG1 (io), 90 RP112/RG0 (io), 91 AN22/RPI22/RA6 (io), 92 AN23/RPI23/RA7 (io), 93 AN24/PWM1L/PMD0/RP80/RE0 (io), 94 AN25/PWM1H/PMD1/RPI81/RE1 (io), 95 RP126/RG14 (io), 96 RPI124/RG12 (io), 97 RP125/RG13 (io), 98 AN26/PWM2L/PMD2/RP82/RE2 (io), 99 AN27/PWM2H/PMD3/RPI83/RE3 (io), 100 AN28/PWM3L/PMD4/RP84/RE4 (io)
part B pins: 2 VDD (power) "Positive supply for peripheral logic and I/O pins.", 15 VSS (power) "Ground reference for logic and I/O pins.", 16 VDD (power) "Positive supply for peripheral logic and I/O pins.", 30 AVDD (power) "Positive supply for analog modules. This pin must be connected at all times.", 31 AVSS (power) "Ground reference for analog modules.", 36 VSS (power) "Ground reference for logic and I/O pins.", 37 VDD (power) "Positive supply for peripheral logic and I/O pins.", 45 VSS (power) "Ground reference for logic and I/O pins.", 46 VDD (power) "Positive supply for peripheral logic and I/O pins.", 54 VBUS (power) "USB bus power monitor.", 55 VUSB3V3 (power) "USB internal transceiver supply. If the USB module is not being used, this pin must be connected to VDD.", 62 VDD (power) "Positive supply for peripheral logic and I/O pins.", 65 VSS (power) "Ground reference for logic and I/O pins.", 75 VSS (power) "Ground reference for logic and I/O pins.", 86 VDD (power) "Positive supply for peripheral logic and I/O pins."

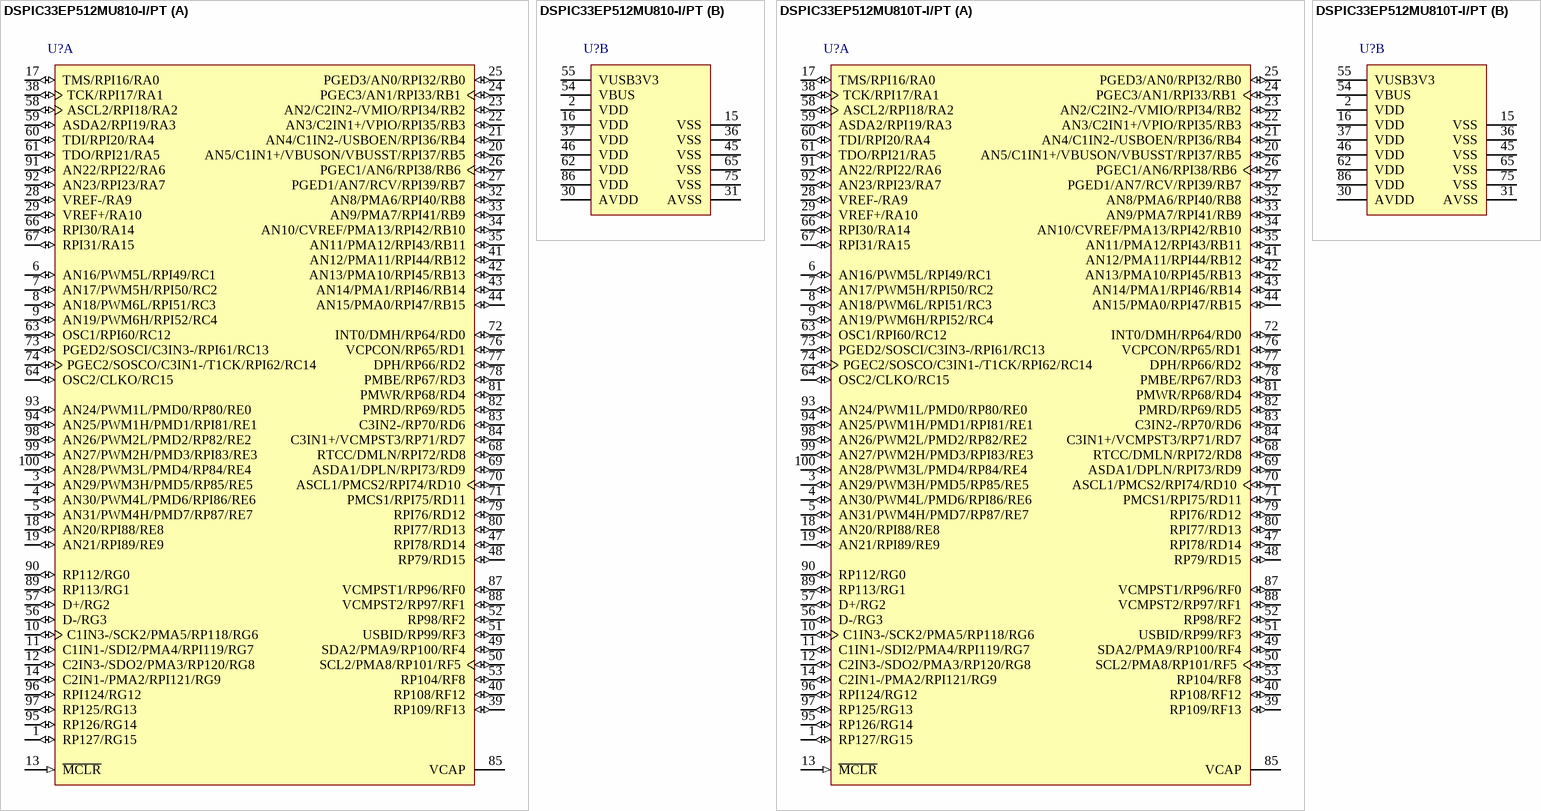
[diagram p60: symbols DSPIC33EP512MU810-I/PT to DSPIC33EP512MU810T-I/PT]

## DSPIC33EP512MU810-I/PT
designator U?
16-Bit Microcontroller and Digital Signal Controller with High-Speed PWM, USB and Advanced Analog, 70 MIPS, 83 I/O, PMP, -40 to 85 degC, 100-pin TQFP (PT100), Tray; Manufacturer: Microchip; PartNumber: DSPIC33EP512MU810-I/PT; DatasheetVersion: Rev. G; PackageVersion: C04-100B; PackageReference: TQFP-PT100; PackageDescription: 100-Lead Plastic Thin Quad Flatpack, 12 x 12 mm Body, 0.4 mm Pitch; Supplier 1: Digi-Key; Supplier Part Number 1: DSPIC33EP512MU810-I/PT-ND; Supplier 2: Farnell; Supplier Part Number 2: 1971853; Supplier 3: Newark; Supplier Part Number 3: 65R5406; Supplier 4: Mouser; Supplier Part Number 4: 579-PIC33512MU810IPT; Mounting Technology: Surface Mount; ComponentLink1Description: Manufacturer URL; ComponentLink1URL: http://www.microchip.com; ComponentLink2Description: Datasheet; ComponentLink2URL: http://ww1.microchip.com/downloads/en/DeviceDoc/70616g.pdf; ComponentLink3Description: Package Specification; ComponentLink3URL: http://www.microchip.com/stellent/groups/techpub_sg/documents/packagingspec/en012702.pdf; ComponentLink4Description: Product URL; ComponentLink4URL: http://www.microchip.com/dsPIC33EP512MU810
footprint MCHP-TQFP-PT100_N (QFP, 100-Leads, Body 12x12mm, Pitch 0.4mm, IPC Medium Density)
footprint MCHP-TQFP-PT100_L (QFP, 100-Leads, Body 12x12mm, Pitch 0.4mm, IPC High Density)
footprint MCHP-TQFP-PT100_M (TQFP, 100-Leads, Body 12x12mm, Pitch 0.4mm, IPC Low Density)
part A pins: 1 RP127/RG15 (io), 3 AN29/PWM3H/PMD5/RP85/RE5 (io), 4 AN30/PWM4L/PMD6/RPI86/RE6 (io), 5 AN31/PWM4H/PMD7/RP87/RE7 (io), 6 AN16/PWM5L/RPI49/RC1 (io), 7 AN17/PWM5H/RPI50/RC2 (io), 8 AN18/PWM6L/RPI51/RC3 (io), 9 AN19/PWM6H/RPI52/RC4 (io), 10 C1IN3-/SCK2/PMA5/RP118/RG6 (io), 11 C1IN1-/SDI2/PMA4/RPI119/RG7 (io), 12 C2IN3-/SDO2/PMA3/RP120/RG8 (io), 13 ~{MCLR} (in) "Master Clear (Reset) input. This pin is an active-low Reset to the device.", 14 C2IN1-/PMA2/RPI121/RG9 (io), 17 TMS/RPI16/RA0 (io), 18 AN20/RPI88/RE8 (io), 19 AN21/RPI89/RE9 (io), 20 AN5/C1IN1+/VBUSON/VBUSST/RPI37/RB5 (io), 21 AN4/C1IN2-/USBOEN/RPI36/RB4 (io), 22 AN3/C2IN1+/VPIO/RPI35/RB3 (io), 23 AN2/C2IN2-/VMIO/RPI34/RB2 (io), 24 PGEC3/AN1/RPI33/RB1 (io), 25 PGED3/AN0/RPI32/RB0 (io), 26 PGEC1/AN6/RPI38/RB6 (io), 27 PGED1/AN7/RCV/RPI39/RB7 (io), 28 VREF-/RA9 (io), 29 VREF+/RA10 (io), 32 AN8/PMA6/RPI40/RB8 (io), 33 AN9/PMA7/RPI41/RB9 (io), 34 AN10/CVREF/PMA13/RPI42/RB10 (io), 35 AN11/PMA12/RPI43/RB11 (io), 38 TCK/RPI17/RA1 (io), 39 RP109/RF13 (io), 40 RP108/RF12 (io), 41 AN12/PMA11/RPI44/RB12 (io), 42 AN13/PMA10/RPI45/RB13 (io), 43 AN14/PMA1/RPI46/RB14 (io), 44 AN15/PMA0/RPI47/RB15 (io), 47 RPI78/RD14 (io), 48 RP79/RD15 (io), 49 SDA2/PMA9/RP100/RF4 (io), 50 SCL2/PMA8/RP101/RF5 (io), 51 USBID/RP99/RF3 (io), 52 RP98/RF2 (io), 53 RP104/RF8 (io), 56 D-/RG3 (io), 57 D+/RG2 (io), 58 ASCL2/RPI18/RA2 (io), 59 ASDA2/RPI19/RA3 (io), 60 TDI/RPI20/RA4 (io), 61 TDO/RPI21/RA5 (io), 63 OSC1/RPI60/RC12 (io), 64 OSC2/CLKO/RC15 (io), 66 RPI30/RA14 (io), 67 RPI31/RA15 (io), 68 RTCC/DMLN/RPI72/RD8 (io), 69 ASDA1/DPLN/RPI73/RD9 (io), 70 ASCL1/PMCS2/RPI74/RD10 (io), 71 PMCS1/RPI75/RD11 (io), 72 INT0/DMH/RP64/RD0 (io), 73 PGED2/SOSCI/C3IN3-/RPI61/RC13 (io), 74 PGEC2/SOSCO/C3IN1-/T1CK/RPI62/RC14 (io), 76 VCPCON/RP65/RD1 (io), 77 DPH/RP66/RD2 (io), 78 PMBE/RP67/RD3 (io), 79 RPI76/RD12 (io), 80 RPI77/RD13 (io), 81 PMWR/RP68/RD4 (io), 82 PMRD/RP69/RD5 (io), 83 C3IN2-/RP70/RD6 (io), 84 C3IN1+/VCMPST3/RP71/RD7 (io), 85 VCAP "CPU logic filter capacitor connection.", 87 VCMPST1/RP96/RF0 (io), 88 VCMPST2/RP97/RF1 (io), 89 RP113/RG1 (io), 90 RP112/RG0 (io), 91 AN22/RPI22/RA6 (io), 92 AN23/RPI23/RA7 (io), 93 AN24/PWM1L/PMD0/RP80/RE0 (io), 94 AN25/PWM1H/PMD1/RPI81/RE1 (io), 95 RP126/RG14 (io), 96 RPI124/RG12 (io), 97 RP125/RG13 (io), 98 AN26/PWM2L/PMD2/RP82/RE2 (io), 99 AN27/PWM2H/PMD3/RPI83/RE3 (io), 100 AN28/PWM3L/PMD4/RP84/RE4 (io)
part B pins: 2 VDD (power) "Positive supply for peripheral logic and I/O pins.", 15 VSS (power) "Ground reference for logic and I/O pins.", 16 VDD (power) "Positive supply for peripheral logic and I/O pins.", 30 AVDD (power) "Positive supply for analog modules. This pin must be connected at all times.", 31 AVSS (power) "Ground reference for analog modules.", 36 VSS (power) "Ground reference for logic and I/O pins.", 37 VDD (power) "Positive supply for peripheral logic and I/O pins.", 45 VSS (power) "Ground reference for logic and I/O pins.", 46 VDD (power) "Positive supply for peripheral logic and I/O pins.", 54 VBUS (power) "USB bus power monitor.", 55 VUSB3V3 (power) "USB internal transceiver supply. If the USB module is not being used, this pin must be connected to VDD.", 62 VDD (power) "Positive supply for peripheral logic and I/O pins.", 65 VSS (power) "Ground reference for logic and I/O pins.", 75 VSS (power) "Ground reference for logic and I/O pins.", 86 VDD (power) "Positive supply for peripheral logic and I/O pins."

## DSPIC33EP512MU810T-I/PT
designator U?
16-Bit Microcontroller and Digital Signal Controller with High-Speed PWM, USB and Advanced Analog, 70 MIPS, 83 I/O, PMP, -40 to 85 degC, 100-pin TQFP (PT100), Tape and Reel; Manufacturer: Microchip; PartNumber: DSPIC33EP512MU810T-I/PT; DatasheetVersion: Rev. G; PackageVersion: C04-100B; PackageReference: TQFP-PT100; PackageDescription: 100-Lead Plastic Thin Quad Flatpack, 12 x 12 mm Body, 0.4 mm Pitch; Supplier 1: Digi-Key; Supplier Part Number 1: DSPIC33EP512MU810T-I/PT-ND; Supplier 2: Mouser; Supplier Part Number 2: 579-PIC33EP512TIPT; Mounting Technology: Surface Mount; ComponentLink1Description: Manufacturer URL; ComponentLink1URL: http://www.microchip.com; ComponentLink2Description: Datasheet; ComponentLink2URL: http://ww1.microchip.com/downloads/en/DeviceDoc/70616g.pdf; ComponentLink3Description: Package Specification; ComponentLink3URL: http://www.microchip.com/stellent/groups/techpub_sg/documents/packagingspec/en012702.pdf; ComponentLink4Description: Product URL; ComponentLink4URL: http://www.microchip.com/dsPIC33EP512MU810
footprint MCHP-TQFP-PT100_N (QFP, 100-Leads, Body 12x12mm, Pitch 0.4mm, IPC Medium Density)
footprint MCHP-TQFP-PT100_L (QFP, 100-Leads, Body 12x12mm, Pitch 0.4mm, IPC High Density)
footprint MCHP-TQFP-PT100_M (TQFP, 100-Leads, Body 12x12mm, Pitch 0.4mm, IPC Low Density)
part A pins: 1 RP127/RG15 (io), 3 AN29/PWM3H/PMD5/RP85/RE5 (io), 4 AN30/PWM4L/PMD6/RPI86/RE6 (io), 5 AN31/PWM4H/PMD7/RP87/RE7 (io), 6 AN16/PWM5L/RPI49/RC1 (io), 7 AN17/PWM5H/RPI50/RC2 (io), 8 AN18/PWM6L/RPI51/RC3 (io), 9 AN19/PWM6H/RPI52/RC4 (io), 10 C1IN3-/SCK2/PMA5/RP118/RG6 (io), 11 C1IN1-/SDI2/PMA4/RPI119/RG7 (io), 12 C2IN3-/SDO2/PMA3/RP120/RG8 (io), 13 ~{MCLR} (in) "Master Clear (Reset) input. This pin is an active-low Reset to the device.", 14 C2IN1-/PMA2/RPI121/RG9 (io), 17 TMS/RPI16/RA0 (io), 18 AN20/RPI88/RE8 (io), 19 AN21/RPI89/RE9 (io), 20 AN5/C1IN1+/VBUSON/VBUSST/RPI37/RB5 (io), 21 AN4/C1IN2-/USBOEN/RPI36/RB4 (io), 22 AN3/C2IN1+/VPIO/RPI35/RB3 (io), 23 AN2/C2IN2-/VMIO/RPI34/RB2 (io), 24 PGEC3/AN1/RPI33/RB1 (io), 25 PGED3/AN0/RPI32/RB0 (io), 26 PGEC1/AN6/RPI38/RB6 (io), 27 PGED1/AN7/RCV/RPI39/RB7 (io), 28 VREF-/RA9 (io), 29 VREF+/RA10 (io), 32 AN8/PMA6/RPI40/RB8 (io), 33 AN9/PMA7/RPI41/RB9 (io), 34 AN10/CVREF/PMA13/RPI42/RB10 (io), 35 AN11/PMA12/RPI43/RB11 (io), 38 TCK/RPI17/RA1 (io), 39 RP109/RF13 (io), 40 RP108/RF12 (io), 41 AN12/PMA11/RPI44/RB12 (io), 42 AN13/PMA10/RPI45/RB13 (io), 43 AN14/PMA1/RPI46/RB14 (io), 44 AN15/PMA0/RPI47/RB15 (io), 47 RPI78/RD14 (io), 48 RP79/RD15 (io), 49 SDA2/PMA9/RP100/RF4 (io), 50 SCL2/PMA8/RP101/RF5 (io), 51 USBID/RP99/RF3 (io), 52 RP98/RF2 (io), 53 RP104/RF8 (io), 56 D-/RG3 (io), 57 D+/RG2 (io), 58 ASCL2/RPI18/RA2 (io), 59 ASDA2/RPI19/RA3 (io), 60 TDI/RPI20/RA4 (io), 61 TDO/RPI21/RA5 (io), 63 OSC1/RPI60/RC12 (io), 64 OSC2/CLKO/RC15 (io), 66 RPI30/RA14 (io), 67 RPI31/RA15 (io), 68 RTCC/DMLN/RPI72/RD8 (io), 69 ASDA1/DPLN/RPI73/RD9 (io), 70 ASCL1/PMCS2/RPI74/RD10 (io), 71 PMCS1/RPI75/RD11 (io), 72 INT0/DMH/RP64/RD0 (io), 73 PGED2/SOSCI/C3IN3-/RPI61/RC13 (io), 74 PGEC2/SOSCO/C3IN1-/T1CK/RPI62/RC14 (io), 76 VCPCON/RP65/RD1 (io), 77 DPH/RP66/RD2 (io), 78 PMBE/RP67/RD3 (io), 79 RPI76/RD12 (io), 80 RPI77/RD13 (io), 81 PMWR/RP68/RD4 (io), 82 PMRD/RP69/RD5 (io), 83 C3IN2-/RP70/RD6 (io), 84 C3IN1+/VCMPST3/RP71/RD7 (io), 85 VCAP "CPU logic filter capacitor connection.", 87 VCMPST1/RP96/RF0 (io), 88 VCMPST2/RP97/RF1 (io), 89 RP113/RG1 (io), 90 RP112/RG0 (io), 91 AN22/RPI22/RA6 (io), 92 AN23/RPI23/RA7 (io), 93 AN24/PWM1L/PMD0/RP80/RE0 (io), 94 AN25/PWM1H/PMD1/RPI81/RE1 (io), 95 RP126/RG14 (io), 96 RPI124/RG12 (io), 97 RP125/RG13 (io), 98 AN26/PWM2L/PMD2/RP82/RE2 (io), 99 AN27/PWM2H/PMD3/RPI83/RE3 (io), 100 AN28/PWM3L/PMD4/RP84/RE4 (io)
part B pins: 2 VDD (power) "Positive supply for peripheral logic and I/O pins.", 15 VSS (power) "Ground reference for logic and I/O pins.", 16 VDD (power) "Positive supply for peripheral logic and I/O pins.", 30 AVDD (power) "Positive supply for analog modules. This pin must be connected at all times.", 31 AVSS (power) "Ground reference for analog modules.", 36 VSS (power) "Ground reference for logic and I/O pins.", 37 VDD (power) "Positive supply for peripheral logic and I/O pins.", 45 VSS (power) "Ground reference for logic and I/O pins.", 46 VDD (power) "Positive supply for peripheral logic and I/O pins.", 54 VBUS (power) "USB bus power monitor.", 55 VUSB3V3 (power) "USB internal transceiver supply. If the USB module is not being used, this pin must be connected to VDD.", 62 VDD (power) "Positive supply for peripheral logic and I/O pins.", 65 VSS (power) "Ground reference for logic and I/O pins.", 75 VSS (power) "Ground reference for logic and I/O pins.", 86 VDD (power) "Positive supply for peripheral logic and I/O pins."

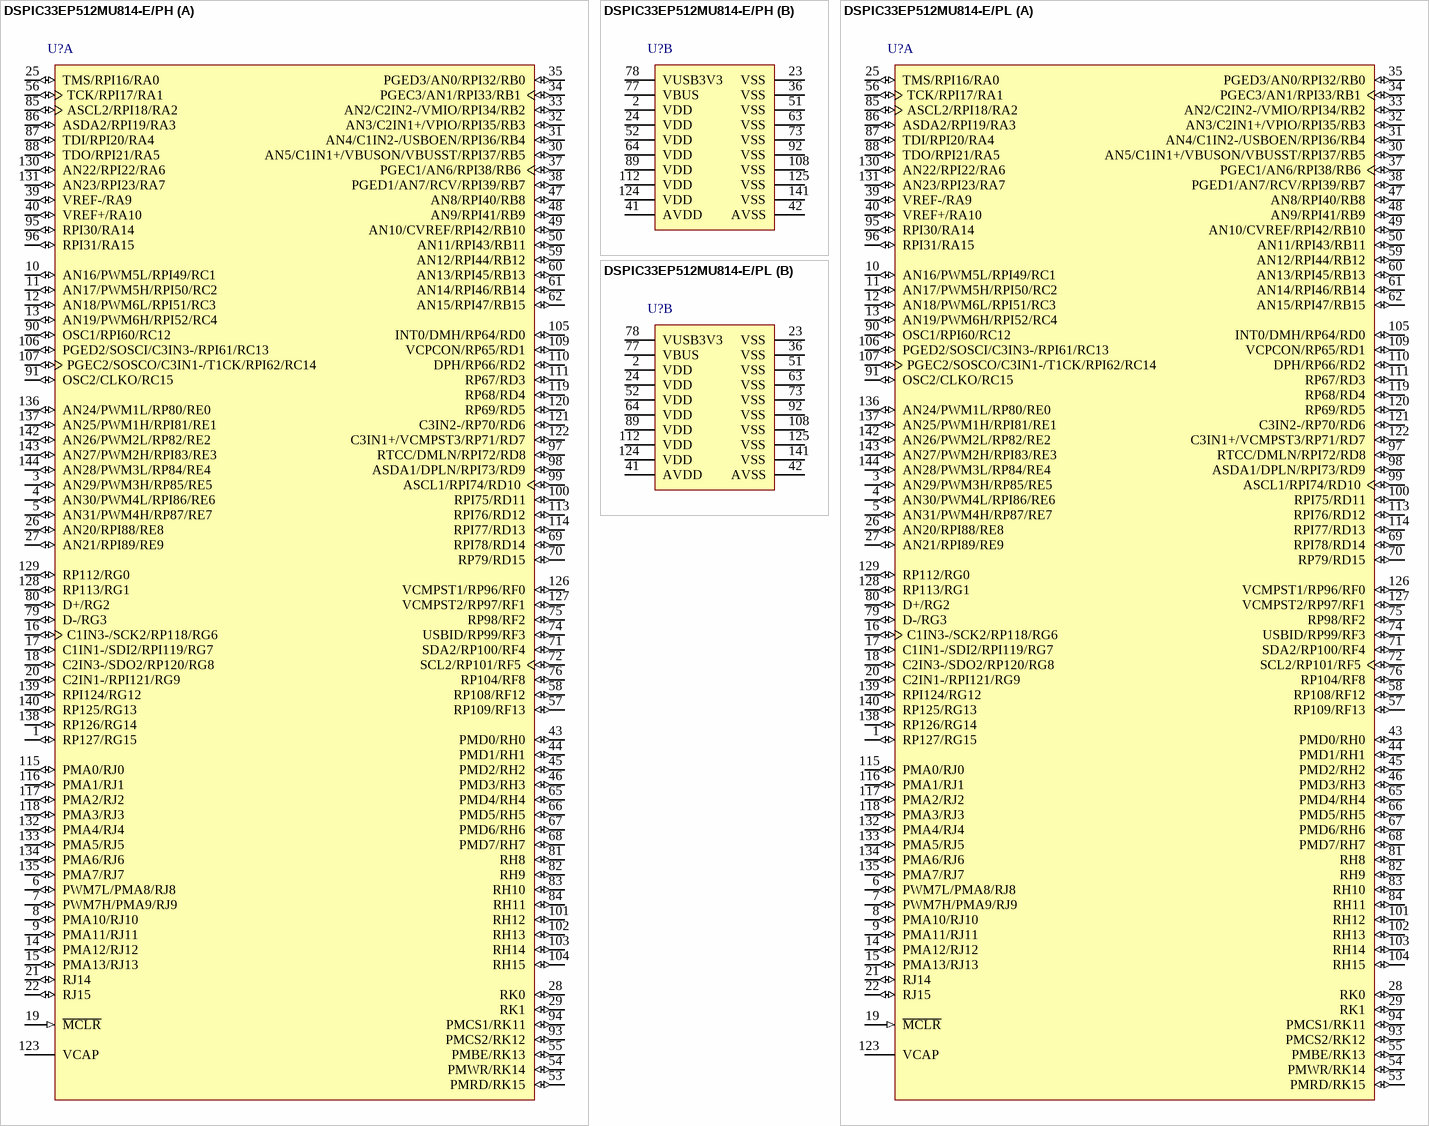
[diagram p61: symbols DSPIC33EP512MU814-E/PH to DSPIC33EP512MU814-E/PL]

## DSPIC33EP512MU814-E/PH
designator U?
16-Bit Microcontroller and Digital Signal Controller with High-Speed PWM, USB and Advanced Analog, 70 MIPS, 122 I/O, PMP, -40 to 125 degC, 144-pin TQFP (PH144), Tray; Manufacturer: Microchip; PartNumber: DSPIC33EP512MU814-E/PH; DatasheetVersion: Rev. G; PackageVersion: C04-155B; PackageReference: TQFP-PH144; PackageDescription: 144-Lead Plastic Thin Quad Flatpack, 16 x 16 mm Body, 0.4 mm Pitch; Supplier 1: Digi-Key; Supplier Part Number 1: DSPIC33EP512MU814-E/PH-ND; Supplier 2: Newark; Supplier Part Number 2: 65R5409; Supplier 3: Mouser; Supplier Part Number 3: 579-PIC33512MU814H; Mounting Technology: Surface Mount; ComponentLink1Description: Manufacturer URL; ComponentLink1URL: http://www.microchip.com; ComponentLink2Description: Datasheet; ComponentLink2URL: http://ww1.microchip.com/downloads/en/DeviceDoc/70616g.pdf; ComponentLink3Description: Package Specification; ComponentLink3URL: http://www.microchip.com/stellent/groups/techpub_sg/documents/packagingspec/en012702.pdf; ComponentLink4Description: Product URL; ComponentLink4URL: http://www.microchip.com/dsPIC33EP512MU814
footprint MCHP-TQFP-PH144_N (QFP, 144-Leads, Body 16x16mm, Pitch 0.4mm, IPC Medium Density)
footprint MCHP-TQFP-PH144_L (QFP, 144-Leads, Body 16x16mm, Pitch 0.4mm, IPC High Density)
footprint MCHP-TQFP-PH144_M (QFP, 144-Leads, Body 16x16mm, Pitch 0.4mm, IPC Low Density)
part A pins: 1 RP127/RG15 (io), 3 AN29/PWM3H/RP85/RE5 (io), 4 AN30/PWM4L/RPI86/RE6 (io), 5 AN31/PWM4H/RP87/RE7 (io), 6 PWM7L/PMA8/RJ8 (io), 7 PWM7H/PMA9/RJ9 (io), 8 PMA10/RJ10 (io), 9 PMA11/RJ11 (io), 10 AN16/PWM5L/RPI49/RC1 (io), 11 AN17/PWM5H/RPI50/RC2 (io), 12 AN18/PWM6L/RPI51/RC3 (io), 13 AN19/PWM6H/RPI52/RC4 (io), 14 PMA12/RJ12 (io), 15 PMA13/RJ13 (io), 16 C1IN3-/SCK2/RP118/RG6 (io), 17 C1IN1-/SDI2/RPI119/RG7 (io), 18 C2IN3-/SDO2/RP120/RG8 (io), 19 ~{MCLR} (in) "Master Clear (Reset) input. This pin is an active-low Reset to the device.", 20 C2IN1-/RPI121/RG9 (io), 21 RJ14 (io) "PORTJ is a bidirectional I/O port.", 22 RJ15 (io) "PORTJ is a bidirectional I/O port.", 25 TMS/RPI16/RA0 (io), 26 AN20/RPI88/RE8 (io), 27 AN21/RPI89/RE9 (io), 28 RK0 (io) "PORTK is a bidirectional I/O port.", 29 RK1 (io) "PORTK is a bidirectional I/O port.", 30 AN5/C1IN1+/VBUSON/VBUSST/RPI37/RB5 (io), 31 AN4/C1IN2-/USBOEN/RPI36/RB4 (io), 32 AN3/C2IN1+/VPIO/RPI35/RB3 (io), 33 AN2/C2IN2-/VMIO/RPI34/RB2 (io), 34 PGEC3/AN1/RPI33/RB1 (io), 35 PGED3/AN0/RPI32/RB0 (io), 37 PGEC1/AN6/RPI38/RB6 (io), 38 PGED1/AN7/RCV/RPI39/RB7 (io), 39 VREF-/RA9 (io), 40 VREF+/RA10 (io), 43 PMD0/RH0 (io), 44 PMD1/RH1 (io), 45 PMD2/RH2 (io), 46 PMD3/RH3 (io), 47 AN8/RPI40/RB8 (io), 48 AN9/RPI41/RB9 (io), 49 AN10/CVREF/RPI42/RB10 (io), 50 AN11/RPI43/RB11 (io), 53 PMRD/RK15 (io), 54 PMWR/RK14 (io), 55 PMBE/RK13 (io), 56 TCK/RPI17/RA1 (io), 57 RP109/RF13 (io), 58 RP108/RF12 (io), 59 AN12/RPI44/RB12 (io), 60 AN13/RPI45/RB13 (io), 61 AN14/RPI46/RB14 (io), 62 AN15/RPI47/RB15 (io), 65 PMD4/RH4 (io), 66 PMD5/RH5 (io), 67 PMD6/RH6 (io), 68 PMD7/RH7 (io), 69 RPI78/RD14 (io), 70 RP79/RD15 (io), 71 SDA2/RP100/RF4 (io), 72 SCL2/RP101/RF5 (io), 74 USBID/RP99/RF3 (io), 75 RP98/RF2 (io), 76 RP104/RF8 (io), 79 D-/RG3 (io), 80 D+/RG2 (io), 81 RH8 (io) "PORTH is a bidirectional I/O port.", 82 RH9 (io) "PORTH is a bidirectional I/O port.", 83 RH10 (io) "PORTH is a bidirectional I/O port.", 84 RH11 (io) "PORTH is a bidirectional I/O port.", 85 ASCL2/RPI18/RA2 (io), 86 ASDA2/RPI19/RA3 (io), 87 TDI/RPI20/RA4 (io), 88 TDO/RPI21/RA5 (io), 90 OSC1/RPI60/RC12 (io), 91 OSC2/CLKO/RC15 (io), 93 PMCS2/RK12 (io), 94 PMCS1/RK11 (io), 95 RPI30/RA14 (io), 96 RPI31/RA15 (io), 97 RTCC/DMLN/RPI72/RD8 (io), 98 ASDA1/DPLN/RPI73/RD9 (io), 99 ASCL1/RPI74/RD10 (io), 100 RPI75/RD11 (io), 101 RH12 (io) "PORTH is a bidirectional I/O port.", 102 RH13 (io) "PORTH is a bidirectional I/O port.", 103 RH14 (io) "PORTH is a bidirectional I/O port.", 104 RH15 (io) "PORTH is a bidirectional I/O port.", 105 INT0/DMH/RP64/RD0 (io), 106 PGED2/SOSCI/C3IN3-/RPI61/RC13 (io), 107 PGEC2/SOSCO/C3IN1-/T1CK/RPI62/RC14 (io), 109 VCPCON/RP65/RD1 (io), 110 DPH/RP66/RD2 (io), 111 RP67/RD3 (io), 113 RPI76/RD12 (io), 114 RPI77/RD13 (io), 115 PMA0/RJ0 (io), 116 PMA1/RJ1 (io), 117 PMA2/RJ2 (io), 118 PMA3/RJ3 (io), 119 RP68/RD4 (io), 120 RP69/RD5 (io), 121 C3IN2-/RP70/RD6 (io), 122 C3IN1+/VCMPST3/RP71/RD7 (io), 123 VCAP "CPU logic filter capacitor connection.", 126 VCMPST1/RP96/RF0 (io), 127 VCMPST2/RP97/RF1 (io), 128 RP113/RG1 (io), 129 RP112/RG0 (io), 130 AN22/RPI22/RA6 (io), 131 AN23/RPI23/RA7 (io), 132 PMA4/RJ4 (io), 133 PMA5/RJ5 (io), 134 PMA6/RJ6 (io), 135 PMA7/RJ7 (io), 136 AN24/PWM1L/RP80/RE0 (io), 137 AN25/PWM1H/RPI81/RE1 (io), 138 RP126/RG14 (io), 139 RPI124/RG12 (io), 140 RP125/RG13 (io), 142 AN26/PWM2L/RP82/RE2 (io), 143 AN27/PWM2H/RPI83/RE3 (io), 144 AN28/PWM3L/RP84/RE4 (io)
part B pins: 2 VDD (power) "Positive supply for peripheral logic and I/O pins.", 23 VSS (power) "Ground reference for logic and I/O pins.", 24 VDD (power) "Positive supply for peripheral logic and I/O pins.", 36 VSS "Ground reference for logic and I/O pins.", 41 AVDD (power) "Positive supply for analog modules. This pin must be connected at all times.", 42 AVSS "Ground reference for analog modules.", 51 VSS "Ground reference for logic and I/O pins.", 52 VDD (power) "Positive supply for peripheral logic and I/O pins.", 63 VSS "Ground reference for logic and I/O pins.", 64 VDD (power) "Positive supply for peripheral logic and I/O pins.", 73 VSS "Ground reference for logic and I/O pins.", 77 VBUS (power) "USB bus power monitor.", 78 VUSB3V3 (power) "USB internal transceiver supply. If the USB module is not being used, this pin must be connected to VDD.", 89 VDD (power) "Positive supply for peripheral logic and I/O pins.", 92 VSS (power) "Ground reference for logic and I/O pins.", 108 VSS "Ground reference for logic and I/O pins.", 112 VDD (power) "Positive supply for peripheral logic and I/O pins.", 124 VDD (power) "Positive supply for peripheral logic and I/O pins.", 125 VSS "Ground reference for logic and I/O pins.", 141 VSS "Ground reference for logic and I/O pins."